# Altium schematic symbol library Potmeter.SchLib: 1 symbol
Pins are listed as number, name and electrical type; pins without a type are passive.

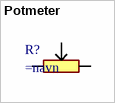
[diagram p0: symbol Potmeter]

## Potmeter
designator R?
Farnell: 1688415
footprint PTA4543-2015DPB103 (Potentiometer, Slide, 10 kohm, 250 mW, ± 20%, PTA Series, Linear)
footprint PTA4543-ANGLE
pins: 1, 2, 3